# Altium footprint library Power_Footprints.PcbLib: 1 footprints
Each footprint in its own frame and in the unit in brackets; x right, y up, seen from the top. Pads: shape width x height; smd on the part's side, far side on the other; paste and mask are expansions set on the pad; w line width, h text height; cw(c..) or ccw(c..) is an arc to the next point about the centre after c.
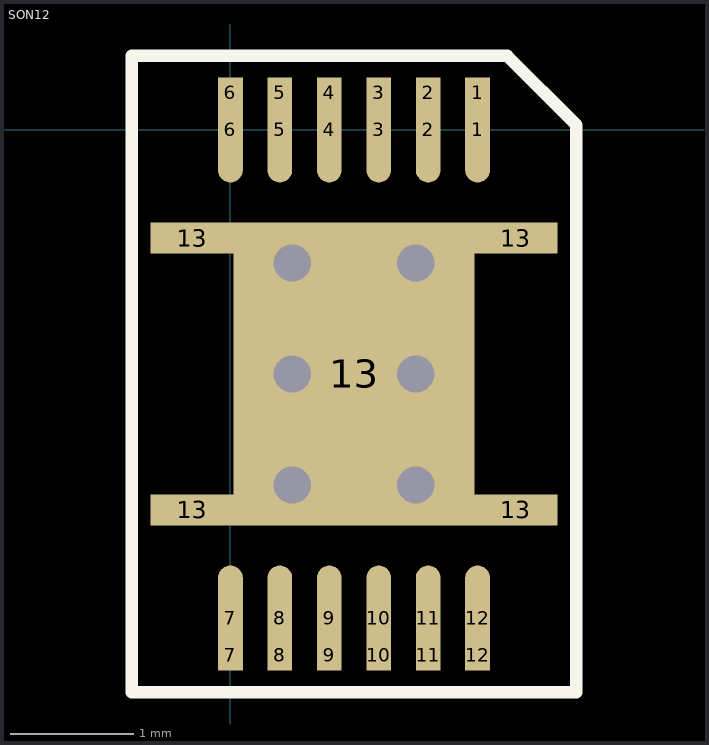
[diagram p0: the footprint, top view; thin cyan lines are the x and y axes]

## SON12 [mm] "12-pin 2.5mm x 4mm SON"
height 1
pads (29):
  oval 0.2x0.85 smd mask+0.05: 1(2,0) 2(1.6,0) 3(1.2,0) 4(0.8,0) 5(0.4,0) 6(0,0) 7(0,-3.95) 8(0.4,-3.95) 9(0.8,-3.95) 10(1.2,-3.95) 11(1.6,-3.95) 12(2,-3.95)
  rect 0.2x0.25 smd mask+0.05: 1(2,0.3) 2(1.6,0.3) 3(1.2,0.3) 4(0.8,0.3) 5(0.4,0.3) 6(0,0.3) 7(0,-4.25) 8(0.4,-4.25) 9(0.8,-4.25) 10(1.2,-4.25) 11(1.6,-4.25) 12(2,-4.25)
  rect 0.675x0.25 smd mask+0.05: 13(-0.31,-3.075) 13(-0.31,-0.875) 13(2.31,-3.075) 13(2.31,-0.875)
  rect 1.95x2.45 smd mask+0.05: 13(1,-1.975)
via 1.5,-2.875 diameter 0.6 hole 0.3
via 1.5,-1.975 diameter 0.6 hole 0.3
via 1.5,-1.075 diameter 0.6 hole 0.3
via 0.5,-2.875 diameter 0.6 hole 0.3
via 0.5,-1.975 diameter 0.6 hole 0.3
via 0.5,-1.075 diameter 0.6 hole 0.3
Top Overlay:
  lines w0.1: -0.8,-4.55 -0.8,0.6 2.24,0.6 2.8,0.04 2.8,-4.55 -0.8,-4.55
3D body: height 1, standoff 0, extent -0.3,-4.05 2.3,0.1